# EAGLE library part ADAFRUIT_ILI9325 (library sjunglib)
Adafruit ILI9325 Breakout Manufacturer: Adafruit Industries (ILITEK) Box header mounted on 10x2 header point with polarizing key facing edge of PCB
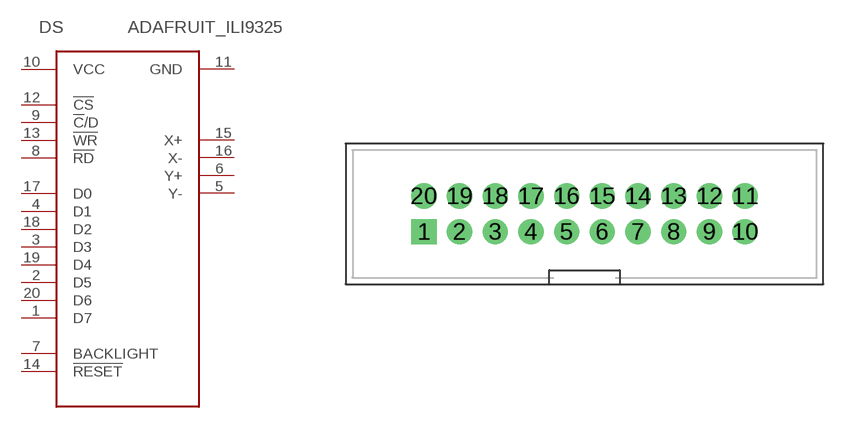
[diagram p5: symbol with the pads of 302-S201; footprint 302-S201]

Designator prefix DS

## ADAFRUIT_ILI9325  [302-S201]
1  D7
2  D5
3  D3
4  D1
5  Y-  out
6  Y+  out
7  BACKLIGHT  in
8  !RD  in
9  !C!/D  in
10  VCC  pwr
11  GND  pwr
12  !CS  in
13  !WR  in
14  !RESET  in
15  X+  out
16  X-  out
17  D0
18  D2
19  D4
20  D6

## Footprint 302-S201 (pad centres in mm)
302-S201 Footprint for On-Shore Technologies 302-S201 10x2 box header Drill dia: 1.2mm Pad dia: 1.8mm Pitch: 0.1" (100mil / 2.54mm) Row spacing: 0.1" (100mil / 2.54mm) Documented dims: 33 x 9 mm Documented key width: 4.5mm
drill 1.2 pad 1.8 square: 1 -11.43,-1.27
drill 1.2 pad 1.8: 2 -8.89,-1.27; 3 -6.35,-1.27; 4 -3.81,-1.27; 5 -1.27,-1.27; 6 1.27,-1.27; 7 3.81,-1.27; 8 6.35,-1.27; 9 8.89,-1.27; 10 11.43,-1.27; 11 11.43,1.27; 12 8.89,1.27; 13 6.35,1.27; 14 3.81,1.27; 15 1.27,1.27; 16 -1.27,1.27; 17 -3.81,1.27; 18 -6.35,1.27; 19 -8.89,1.27; 20 -11.43,1.27